# Altium schematic symbol library Comparator.SchLib: 57 symbols
Pins are listed as number, name and electrical type; pins without a type are passive.

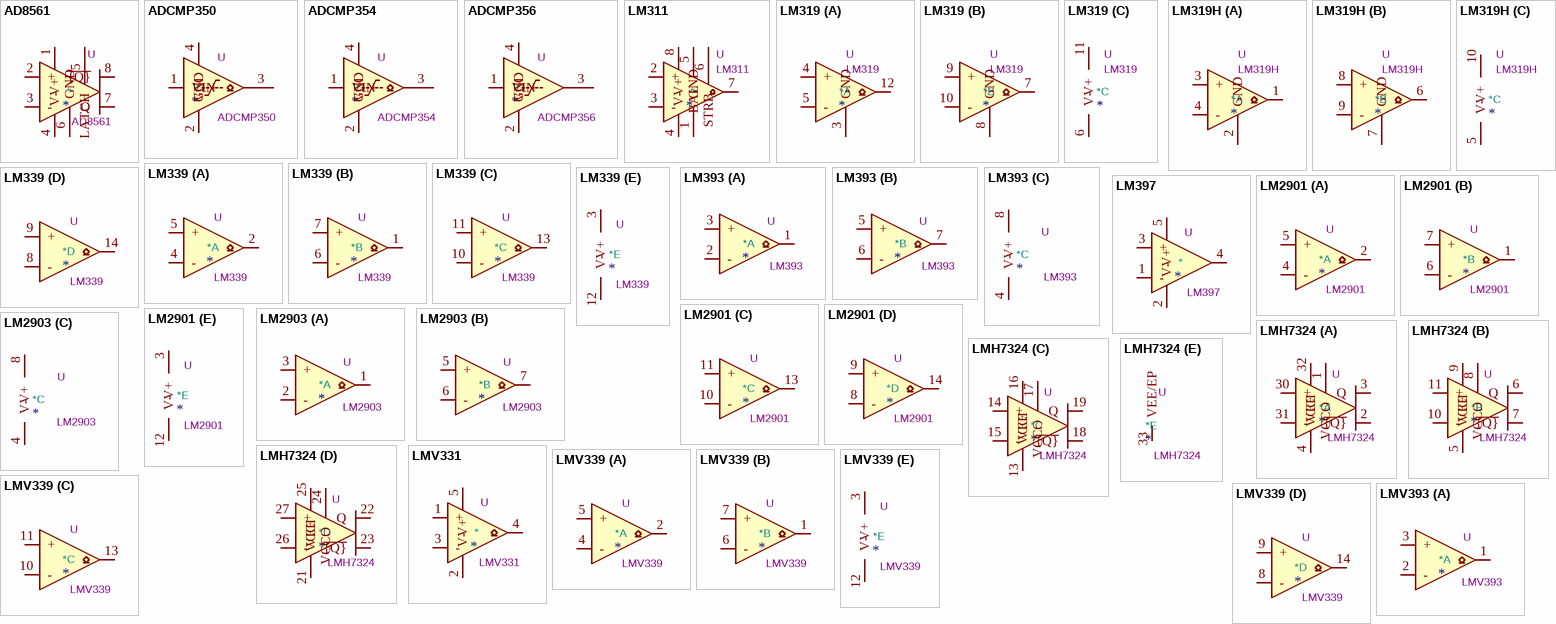
[diagram p0: symbols AD8561 to LMV393]

## AD8561
designator *  value AD8561  Reference: U
ki_keywords: cmp complementary push-pull; ki_description: Ultrafast 7 ns Single Supply Comparator, DIP-8/SOIC-8/TSSOP-8; ki_fp_filters: SOIC*3.9x4.9mm*P1.27mm* TSSOP*4.4x3mm*P0.65mm* DIP*W7.62mm*; Datasheet: https://www.analog.com/media/en/technical-documentation/data-sheets/ad8561.pdf
pins: 1 V+, 2 +, 3 -, 4 V-, 5 LATCH, 6 GND, 7 Q, 8 ~{{Q}}

## ADCMP350
designator *  value ADCMP350  Reference: U
ki_keywords: cmp collector; ki_description: Single-input comparator, internal 0.6V reference, Active-Low Open-Drain output, KS-4; ki_fp_filters: Analog*KS?4*; Footprint: Package_TO_SOT_SMD:Analog_KS-4; Datasheet: https://www.analog.com/media/en/technical-documentation/data-sheets/ADCMP350_354_356.pdf
pins: 1 VIN, 2 GND, 3, 4 VCC

## ADCMP354
designator *  value ADCMP354  Reference: U
ki_keywords: cmp collector; ki_description: Single-input comparator, internal 0.6V reference, Active-High Open-Drain output, KS-4; ki_fp_filters: Analog*KS?4*; Footprint: Package_TO_SOT_SMD:Analog_KS-4; Datasheet: https://www.analog.com/media/en/technical-documentation/data-sheets/ADCMP350_354_356.pdf
pins: 1 VIN, 2 GND, 3, 4 VCC

## ADCMP356
designator *  value ADCMP356  Reference: U
ki_keywords: cmp; ki_description: Single-input comparator, internal 0.6V reference, Active-High Push-Pull output, KS-4; ki_fp_filters: Analog*KS?4*; Footprint: Package_TO_SOT_SMD:Analog_KS-4; Datasheet: https://www.analog.com/media/en/technical-documentation/data-sheets/ADCMP350_354_356.pdf
pins: 1 VIN, 2 GND, 3, 4 VCC

## LM311
designator *  value LM311  Reference: U
ki_keywords: cmp open collector; ki_description: Voltage Comparator, DIP-8/SOIC-8; ki_fp_filters: SOIC*3.9x4.9mm*P1.27mm* DIP*W7.62mm*; Datasheet: https://www.st.com/resource/en/datasheet/lm311.pdf
pins: 1 GND, 2 +, 3 -, 4 V-, 5 BAL, 6 STRB, 7, 8 V+

## LM319
designator *  value LM319  Reference: U
ki_keywords: cmp open collector; ki_description: High Speed Dual Comparator, DIP-14/SOIC-14; ki_fp_filters: SOIC*3.9x8.7mm*P1.27mm* DIP*W7.62mm*; Datasheet: http://www.ti.com/lit/ds/symlink/lm319-n.pdf
part A pins: 1 NC hidden, 2 NC hidden, 3 GND, 4 +, 5 -, 12
part B pins: 7, 8 GND, 9 +, 10 -, 13 NC hidden, 14 NC hidden
part C pins: 6 V-, 11 V+

## LM319H
designator *  value LM319H  Reference: U
ki_keywords: cmp open collector; ki_description: High Speed Dual Comparator, TO-100-10; ki_fp_filters: TO?100*; Footprint: Package_TO_SOT_THT:TO-100-10; Datasheet: http://www.ti.com/lit/ds/symlink/lm319-n.pdf
part A pins: 1, 2 GND, 3 +, 4 -
part B pins: 6, 7 GND, 8 +, 9 -
part C pins: 5 V-, 10 V+

## LM339
designator *  value LM339  Reference: U
ki_keywords: cmp open collector; ki_description: Quad Differential Comparators, SOIC-14/TSSOP-14; ki_fp_filters: SOIC*3.9x8.7mm*P1.27mm* TSSOP*4.4x5mm*P0.65mm*; Datasheet: https://www.st.com/resource/en/datasheet/lm139.pdf
part A pins: 2, 4 -, 5 +
part B pins: 1, 6 -, 7 +
part C pins: 10 -, 11 +, 13
part D pins: 8 -, 9 +, 14
part E pins: 3 V+, 12 V-

## LM393
designator *  value LM393  Reference: U
ki_keywords: cmp open collector; ki_description: Low-Power, Low-Offset Voltage, Dual Comparators, DIP-8/SOIC-8/TO-99-8; ki_fp_filters: SOIC*3.9x4.9mm*P1.27mm* DIP*W7.62mm* SOP*5.28x5.23mm*P1.27mm* VSSOP*3.0x3.0mm*P0.65mm* TSSOP*4.4x3mm*P0.65mm*; Datasheet: http://www.ti.com/lit/ds/symlink/lm393.pdf
part A pins: 1, 2 -, 3 +
part B pins: 5 +, 6 -, 7
part C pins: 4 V-, 8 V+

## LM397
designator *  value LM397  Reference: U
ki_keywords: single comparator; ki_description: Single General-Purpose Voltage Comparator with Open-Collector Output, SOT-23-5; ki_fp_filters: SOT?23*; Footprint: Package_TO_SOT_SMD:SOT-23-5; Datasheet: http://www.ti.com/lit/ds/symlink/lm397.pdf
pins: 1 -, 2 V-, 3 +, 4, 5 V+

## LM2901
designator *  value LM2901  Reference: U
ki_keywords: cmp open collector; ki_description: Quad Differential Comparators, DIP-14/SOIC-14/TSSOP-14; ki_fp_filters: SOIC*3.9x8.7mm*P1.27mm* DIP*W7.62mm* TSSOP*4.4x5mm*P0.65mm*; Datasheet: https://www.st.com/resource/en/datasheet/lm2901.pdf
part A pins: 2, 4 -, 5 +
part B pins: 1, 6 -, 7 +
part C pins: 10 -, 11 +, 13
part D pins: 8 -, 9 +, 14
part E pins: 3 V+, 12 V-

## LM2903
designator *  value LM2903  Reference: U
ki_keywords: cmp open collector; ki_description: Low-Power, Low-Offset Voltage, Dual Comparators, DIP-8/SOIC-8/SOP-8/TSSOP-8/VSSOP-8; ki_fp_filters: SOIC*3.9x4.9mm*P1.27mm* DIP*W7.62mm* SOP*5.28x5.23mm*P1.27mm* VSSOP*3.0x3.0mm*P0.65mm* TSSOP*4.4x3mm*P0.65mm*; Datasheet: http://www.ti.com/lit/ds/symlink/lm393.pdf
part A pins: 1, 2 -, 3 +
part B pins: 5 +, 6 -, 7
part C pins: 4 V-, 8 V+

## LMH7324
designator *  value LMH7324  Reference: U
ki_keywords: cmp push-pull complementary; ki_description: Quad 700 ps High Speed Comparator with RSPECL Outputs, WQFN-32; ki_fp_filters: WQFN*1EP*5x5mm*P0.5mm*; Footprint: Package_DFN_QFN:WQFN-32-1EP_5x5mm_P0.5mm_EP3.1x3.1mm; Datasheet: http://www.ti.com/lit/ds/symlink/lmh7324.pdf
part A pins: 1 VCCO, 2 ~{{Q}}, 3 Q, 4 VEE, 29 VEE hidden, 30 +, 31 -, 32 VCCI
part B pins: 5 VEE, 6 Q, 7 ~{{Q}}, 8 VCCO, 9 VCCI, 10 -, 11 +, 12 VEE hidden
part C pins: 13 VEE, 14 +, 15 -, 16 VCCI, 17 VCCO, 18 ~{{Q}}, 19 Q, 20 VEE hidden
part D pins: 21 VEE, 22 Q, 23 ~{{Q}}, 24 VCCO, 25 VCCI, 26 -, 27 +, 28 VEE hidden
part E pins: 33 VEE/EP

## LMV331
designator *  value LMV331  Reference: U
ki_keywords: single comparator; ki_description: Single General-Purpose Low-Voltage Comparator, SOT-23-5/SC-70-5; ki_fp_filters: SOT?23* *SC?70*; Datasheet: http://www.ti.com/lit/ds/symlink/lmv331.pdf
pins: 1 +, 2 V-, 3 -, 4, 5 V+

## LMV339
designator *  value LMV339  Reference: U
ki_keywords: cmp open collector; ki_description: Quad General-Purpose Low-Voltage Comparator, SOIC-14/TSSOP-14; ki_fp_filters: SOIC*3.9x8.7mm*P1.27mm* TSSOP*4.4x5mm*P0.65mm*; Datasheet: https://www.st.com/resource/en/datasheet/lmv331.pdf
part A pins: 2, 4 -, 5 +
part B pins: 1, 6 -, 7 +
part C pins: 10 -, 11 +, 13
part D pins: 8 -, 9 +, 14
part E pins: 3 V+, 12 V-

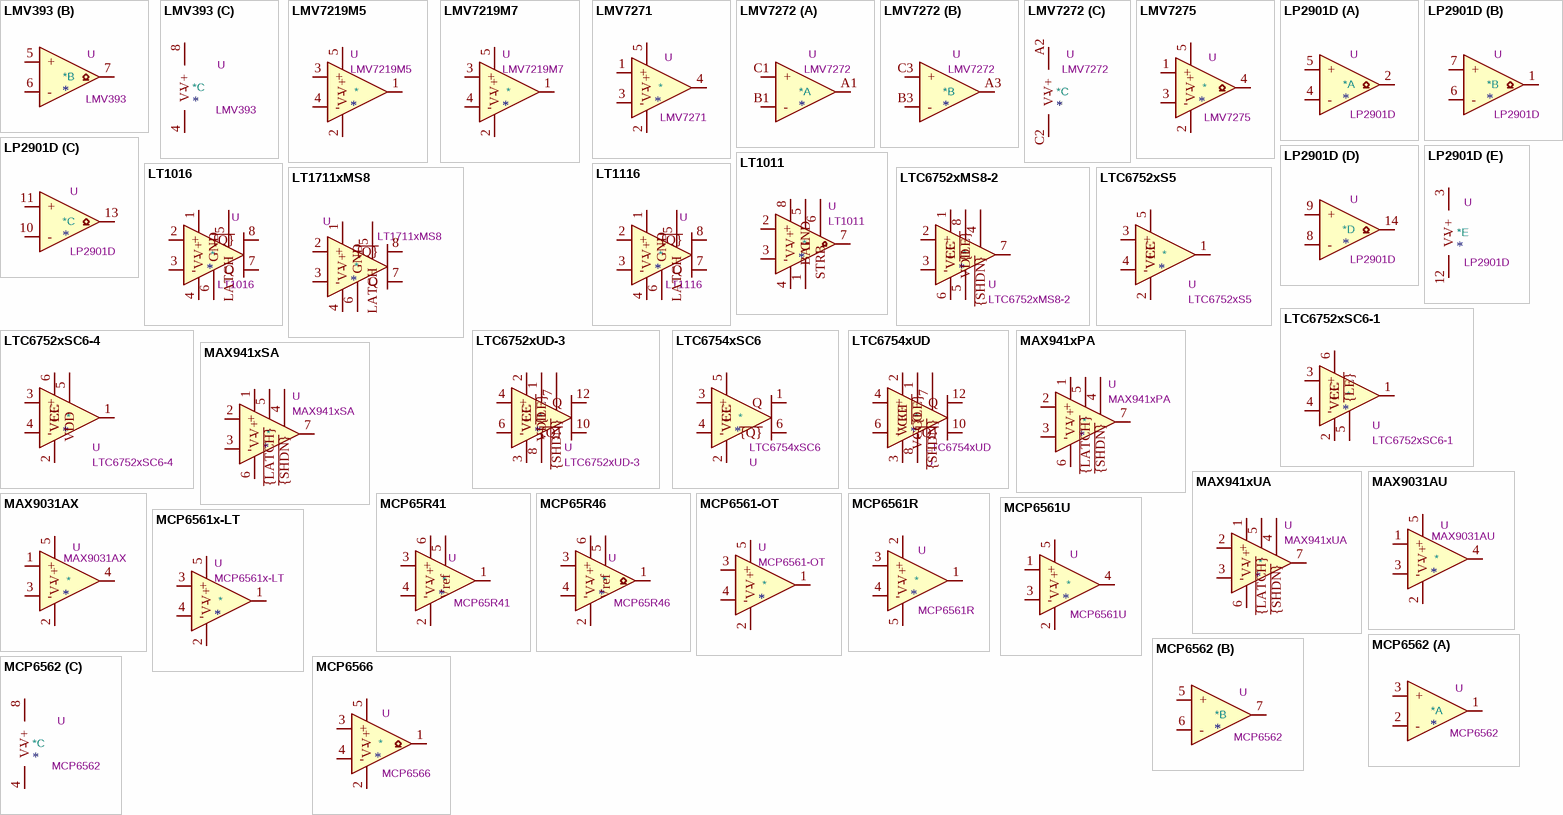
[diagram p1: symbols LMV393 to MCP6566]

## LMV393
designator *  value LMV393  Reference: U
ki_keywords: cmp open collector; ki_description: Dual General-Purpose Low-Voltage Comparator, SOIC-8/TSSOP-8/VSSOP-8; ki_fp_filters: SOIC*3.9x4.9mm*P1.27mm* TSSOP*4.4x3mm*P0.65mm* VSSOP*3.0x3.0mm*P0.65mm* VSSOP*2.3x2mm*P0.5mm*; Datasheet: http://www.ti.com/lit/ds/symlink/lmv331.pdf
part A pins: 1, 2 -, 3 +
part B pins: 5 +, 6 -, 7
part C pins: 4 V-, 8 V+

## LMV7219M5
designator *  value LMV7219M5  Reference: U
ki_keywords: cmp; ki_description: Single Low-Power High-Speed Push-Pull Output Comparator, SOT-23-5; ki_fp_filters: SOT?23*; Footprint: Package_TO_SOT_SMD:SOT-23-5; Datasheet: https://www.ti.com/lit/ds/symlink/lmv7219.pdf
pins: 1, 2 V-, 3 +, 4 -, 5 V+

## LMV7219M7
designator *  value LMV7219M7  Reference: U
ki_keywords: cmp; ki_description: Single Low-Power High-Speed Push-Pull Output Comparator, SC-70-5; ki_fp_filters: SOT?353*; Footprint: Package_TO_SOT_SMD:SOT-353_SC-70-5; Datasheet: https://www.ti.com/lit/ds/symlink/lmv7219.pdf
pins: 1, 2 V-, 3 +, 4 -, 5 V+

## LMV7271
designator *  value LMV7271  Reference: U
ki_keywords: cmp; ki_description: Single, 1.8V Low Power, Rail-to-Rail Input, Push-Pull Output Comparator, SOT-23-5/SC-70-5; ki_fp_filters: SOT?23* *SC?70*; Datasheet: http://www.ti.com/lit/ds/symlink/lmv7271.pdf
pins: 1 +, 2 V-, 3 -, 4, 5 V+

## LMV7272
designator *  value LMV7272  Reference: U
ki_keywords: cmp; ki_description: Dual, 1.8V Low Power, Rail-to-Rail Input, Push-Pull Output Comparator, DSBGA-8; ki_fp_filters: Texas*DSBGA*1.5195x1.5195*Layout3x3*P0.5mm*; Footprint: Package_BGA:Texas_DSBGA-8_1.5195x1.5195mm_Layout3x3_P0.5mm; Datasheet: http://www.ti.com/lit/ds/symlink/lmv7272.pdf
part A pins: A1, B1 -, C1 +
part B pins: A3, B3 -, C3 +
part C pins: A2 V+, C2 V-

## LMV7275
designator *  value LMV7275  Reference: U
ki_keywords: cmp; ki_description: Single, 1.8V Low Power, Rail-to-Rail Input, Open Collector Output Comparator, SOT-23-5/SC-70-5; ki_fp_filters: SOT?23* *SC?70*; Datasheet: http://www.ti.com/lit/ds/symlink/lmv7275.pdf
pins: 1 +, 2 V-, 3 -, 4, 5 V+

## LP2901D
designator *  value LP2901D  Reference: U
ki_keywords: cmp open collector; ki_description: Quad Differential Comparators, SOIC-14; ki_fp_filters: SOIC*3.9x8.7mm*P1.27mm*; Footprint: Package_SO:SOIC-14_3.9x8.7mm_P1.27mm; Datasheet: https://www.ti.com/lit/ds/symlink/lp2901.pdf
part A pins: 2, 4 -, 5 +
part B pins: 1, 6 -, 7 +
part C pins: 10 -, 11 +, 13
part D pins: 8 -, 9 +, 14
part E pins: 3 V+, 12 V-

## LT1011
designator *  value LT1011  Reference: U
ki_keywords: cmp open collector; ki_description: Voltage Comparator, DIP-8/SOIC-8; ki_fp_filters: SOIC*3.9x4.9mm*P1.27mm* DIP*W7.62mm*; Datasheet: https://www.analog.com/media/en/technical-documentation/data-sheets/lt1011.pdf
pins: 1 GND, 2 +, 3 -, 4 V-, 5 BAL, 6 STRB, 7, 8 V+

## LT1016
designator *  value LT1016  Reference: U
ki_keywords: cmp push-pull complementary latch; ki_description: Single UltraFast Precision 10ns Comparator, DIP-8/SOIC-8; ki_fp_filters: SOIC*3.9x4.9mm*P1.27mm* DIP*W7.62mm*; Datasheet: https://www.analog.com/media/en/technical-documentation/data-sheets/lt1016.pdf
pins: 1 V+, 2 +, 3 -, 4 V-, 5 LATCH, 6 GND, 7 Q, 8 ~{{Q}}

## LT1116
designator *  value LT1116  Reference: U
ki_keywords: cmp push-pull complementary latch; ki_description: Single 12ns, Single Supply Ground-Sensing Comparator, DIP-8/SOIC-8; ki_fp_filters: SOIC*3.9x4.9mm*P1.27mm* DIP*W7.62mm*; Datasheet: https://www.analog.com/media/en/technical-documentation/data-sheets/1116fc.pdf
pins: 1 V+, 2 +, 3 -, 4 V-, 5 LATCH, 6 GND, 7 Q, 8 ~{{Q}}

## LT1711xMS8
designator *  value LT1711xMS8  Reference: U
ki_keywords: cmp latch push-pull complementary; ki_description: Single ultrafast 4.5 ns rail-to-rail comparator, MSOP-8; ki_fp_filters: MSOP*3x3mm*P0.65mm*; Footprint: Package_SO:MSOP-8_3x3mm_P0.65mm; Datasheet: https://www.analog.com/media/en/technical-documentation/data-sheets/171112f.pdf
pins: 1 V+, 2 +, 3 -, 4 V-, 5 LATCH, 6 GND, 7 Q, 8 ~{{Q}}

## LTC6752xMS8-2
designator *  value LTC6752xMS8-2  Reference: U
ki_keywords: single comparator high speed cmos; ki_description: Single 280Mhz 2.9ns Comparator, Rail-to-Rail Inputs, CMOS Output, MSOP-8; ki_fp_filters: MSOP*3x3mm*P0.65mm*; Footprint: Package_SO:MSOP-8_3x3mm_P0.65mm; Datasheet: https://www.analog.com/media/en/technical-documentation/data-sheets/6752fc.pdf
pins: 1 VCC, 2 +, 3 -, 4 ~{{SHDN}}, 5 ~{{LE}}, 6 VEE, 7, 8 VDD

## LTC6752xS5
designator *  value LTC6752xS5  Reference: U
ki_keywords: single comparator high speed cmos; ki_description: Single 280Mhz 2.9ns Comparator, Rail-to-Rail Inputs, CMOS Output, TSOT-23-5; ki_fp_filters: TSOT?23?5*; Footprint: Package_TO_SOT_SMD:TSOT-23-5; Datasheet: https://www.analog.com/media/en/technical-documentation/data-sheets/6752fc.pdf
pins: 1, 2 VEE, 3 +, 4 -, 5 VCC

## LTC6752xSC6-1
designator *  value LTC6752xSC6-1  Reference: U
ki_keywords: single comparator high speed cmos; ki_description: Single 280Mhz 2.9ns Comparator, Rail-to-Rail Inputs, CMOS Output, SC-70; ki_fp_filters: SOT?363*; Footprint: Package_TO_SOT_SMD:SOT-363_SC-70-6; Datasheet: https://www.analog.com/media/en/technical-documentation/data-sheets/6752fc.pdf
pins: 1, 2 VEE, 3 +, 4 -, 5 ~{{LE}}, 6 VCC

## LTC6752xSC6-4
designator *  value LTC6752xSC6-4  Reference: U
ki_keywords: single comparator high speed cmos; ki_description: Single 280Mhz 2.9ns Comparator, Rail-to-Rail Inputs, CMOS Output, SC-70; ki_fp_filters: SOT?363*; Footprint: Package_TO_SOT_SMD:SOT-363_SC-70-6; Datasheet: https://www.analog.com/media/en/technical-documentation/data-sheets/6752fc.pdf
pins: 1, 2 VEE, 3 +, 4 -, 5 VDD, 6 VCC

## LTC6752xUD-3
designator *  value LTC6752xUD-3  Reference: U
ki_keywords: single comparator high speed cmos; ki_description: Single 280Mhz 2.9ns Comparator, Rail-to-Rail Inputs, CMOS Output, QFN-12; ki_fp_filters: QFN*1EP*3x3mm*P0.5mm*; Footprint: Package_DFN_QFN:QFN-12-1EP_3x3mm_P0.5mm_EP1.65x1.65mm; Datasheet: https://www.analog.com/media/en/technical-documentation/data-sheets/6752fc.pdf
pins: 1 VDD, 2 VCC, 3 VEE, 4 +, 5 NC hidden, 6 -, 7 ~{{SHDN}}, 8 ~{{LE}}, 9 VEE hidden, 10 ~{{Q}}, 11 NC hidden, 12 Q, 13 VEE hidden

## LTC6754xSC6
designator *  value LTC6754xSC6  Reference: U
ki_keywords: cmp r2r rtr push-pull complementary; ki_description: Single High Speed Rail-to-Rail Input Comparator with LVDS Compatible Outputs, SC-70-6; ki_fp_filters: *SC?70*; Footprint: Package_TO_SOT_SMD:SOT-363_SC-70-6; Datasheet: https://www.analog.com/media/en/technical-documentation/data-sheets/6754f.pdf
pins: 1 Q, 2 VEE, 3 +, 4 -, 5 VCC, 6 ~{{Q}}

## LTC6754xUD
designator *  value LTC6754xUD  Reference: U
ki_keywords: cmp r2r rtr push-pull complementary; ki_description: Single High Speed Rail-to-Rail Input Comparator with LVDS Compatible Outputs, QFN-12; ki_fp_filters: QFN*1EP*3x3mm*P0.5mm*; Footprint: Package_DFN_QFN:QFN-12-1EP_3x3mm_P0.5mm_EP1.65x1.65mm; Datasheet: https://www.analog.com/media/en/technical-documentation/data-sheets/6754f.pdf
pins: 1 VCCO, 2 VCCI, 3 VEE, 4 +, 5 NC hidden, 6 -, 7 ~{{SHDN}}, 8 ~{{LE}}, 9 VEE hidden, 10 ~{{Q}}, 11 NC hidden, 12 Q, 13 VEE hidden

## MAX941xPA
designator *  value MAX941xPA  Reference: U
ki_keywords: single comparator; ki_description: High-Speed, Low-Power, 3V/5V, Rail-to-Rail, Single-Supply Comparator, PDIP-8; ki_fp_filters: DIP*W7.62mm*; Footprint: Package_DIP:DIP-8_W7.62mm; Datasheet: https://datasheets.maximintegrated.com/en/ds/MAX941-MAX944.pdf
pins: 1 V+, 2 +, 3 -, 4 ~{{SHDN}}, 5 ~{{LATCH}}, 6 V-, 7, 8 NC hidden

## MAX941xSA
designator *  value MAX941xSA  Reference: U
ki_keywords: single comparator; ki_description: High-Speed, Low-Power, 3V/5V, Rail-to-Rail, Single-Supply Comparator, SOIC-8; ki_fp_filters: SOIC*3.9x4.9mm*P1.27mm*; Footprint: Package_SO:SOIC-8_3.9x4.9mm_P1.27mm; Datasheet: https://datasheets.maximintegrated.com/en/ds/MAX941-MAX944.pdf
pins: 1 V+, 2 +, 3 -, 4 ~{{SHDN}}, 5 ~{{LATCH}}, 6 V-, 7, 8 NC hidden

## MAX941xUA
designator *  value MAX941xUA  Reference: U
ki_keywords: single comparator; ki_description: High-Speed, Low-Power, 3V/5V, Rail-to-Rail, Single-Supply Comparator, MSOP-8; ki_fp_filters: MSOP*3x3mm*P0.65mm*; Footprint: Package_SO:MSOP-8_3x3mm_P0.65mm; Datasheet: https://datasheets.maximintegrated.com/en/ds/MAX941-MAX944.pdf
pins: 1 V+, 2 +, 3 -, 4 ~{{SHDN}}, 5 ~{{LATCH}}, 6 V-, 7, 8 NC hidden

## MAX9031AU
designator *  value MAX9031AU  Reference: U
ki_keywords: rail-rail; ki_description: Single, Rail to Rail, 2.5V - 5.5V Supply, 571mW, SOT-23-5; ki_fp_filters: *SOT?23*; Footprint: Package_TO_SOT_SMD:SOT-23-5; Datasheet: https://datasheets.maximintegrated.com/en/ds/MAX9030-MAX9034.pdf
pins: 1 +, 2 V-, 3 -, 4, 5 V+

## MAX9031AX
designator *  value MAX9031AX  Reference: U
ki_keywords: rail-rail; ki_description: Single, Rail to Rail, 2.5V - 5.5V Supply, 247mW, SC70; ki_fp_filters: *SC?70*; Footprint: Package_TO_SOT_SMD:SOT-353_SC-70-5; Datasheet: https://datasheets.maximintegrated.com/en/ds/MAX9030-MAX9034.pdf
pins: 1 +, 2 V-, 3 -, 4, 5 V+

## MCP65R41
designator *  value MCP65R41  Reference: U
ki_keywords: cmp reference; ki_description: 3 μA Comparator with Integrated Reference Voltage, SOT-23-6; ki_fp_filters: SOT?23*; Footprint: Package_TO_SOT_SMD:SOT-23-6; Datasheet: http://ww1.microchip.com/downloads/en/DeviceDoc/22269B.pdf
pins: 1, 2 V-, 3 +, 4 -, 5 Vref, 6 V+

## MCP65R46
designator *  value MCP65R46  Reference: U
ki_keywords: cmp reference open collector drain; ki_description: 3 μA Comparator with Integrated Reference Voltage, SOT-23-6; ki_fp_filters: SOT?23*; Footprint: Package_TO_SOT_SMD:SOT-23-6; Datasheet: http://ww1.microchip.com/downloads/en/DeviceDoc/22269B.pdf
pins: 1, 2 V-, 3 +, 4 -, 5 Vref, 6 V+

## MCP6561-OT
designator *  value MCP6561-OT  Reference: U
ki_keywords: cmp; ki_description: Single 1.8V Low-Power Push-Pull Output Comparator, SOT-23-5; ki_fp_filters: SOT?23*; Footprint: Package_TO_SOT_SMD:SOT-23-5; Datasheet: http://ww1.microchip.com/downloads/en/DeviceDoc/MCP6561-1R-1U-2-4-1.8V-Low-Power-Push-Pull-Output-Comparator-DS20002139E.pdf
pins: 1, 2 V-, 3 +, 4 -, 5 V+

## MCP6561R
designator *  value MCP6561R  Reference: U
ki_keywords: cmp; ki_description: Single 1.8V Low-Power Push-Pull Output Comparator, SOT-23-5; ki_fp_filters: SOT?23*; Footprint: Package_TO_SOT_SMD:SOT-23-5; Datasheet: http://ww1.microchip.com/downloads/en/DeviceDoc/MCP6561-1R-1U-2-4-1.8V-Low-Power-Push-Pull-Output-Comparator-DS20002139E.pdf
pins: 1, 2 V+, 3 +, 4 -, 5 V-

## MCP6561U
designator *  value MCP6561U  Reference: U
ki_keywords: cmp; ki_description: Single 1.8V Low-Power Push-Pull Output Comparator, SOT-23-5; ki_fp_filters: SOT?23*; Footprint: Package_TO_SOT_SMD:SOT-23-5; Datasheet: http://ww1.microchip.com/downloads/en/DeviceDoc/MCP6561-1R-1U-2-4-1.8V-Low-Power-Push-Pull-Output-Comparator-DS20002139E.pdf
pins: 1 +, 2 V-, 3 -, 4, 5 V+

## MCP6561x-LT
designator *  value MCP6561x-LT  Reference: U
ki_keywords: cmp; ki_description: Single 1.8V Low-Power Push-Pull Output Comparator, SC-70-5; ki_fp_filters: SOT?353*; Footprint: Package_TO_SOT_SMD:SOT-353_SC-70-5; Datasheet: http://ww1.microchip.com/downloads/en/DeviceDoc/MCP6561-1R-1U-2-4-1.8V-Low-Power-Push-Pull-Output-Comparator-DS20002139E.pdf
pins: 1, 2 V-, 3 +, 4 -, 5 V+

## MCP6562
designator *  value MCP6562  Reference: U
ki_keywords: cmp; ki_description: Dual 1.8V Low-Power Push-Pull Output Comparator, SOIC-8/MSOP-8; ki_fp_filters: SOIC*3.9x4.9mm*P1.27mm* MSOP*3x3mm*P0.65mm*; Datasheet: http://ww1.microchip.com/downloads/en/DeviceDoc/MCP6561-1R-1U-2-4-1.8V-Low-Power-Push-Pull-Output-Comparator-DS20002139E.pdf
part A pins: 1, 2 -, 3 +
part B pins: 5 +, 6 -, 7
part C pins: 4 V-, 8 V+

## MCP6566
designator *  value MCP6566  Reference: U
ki_keywords: cmp collector; ki_description: Single 1.8V Low-Power Open-Drain Output Comparator, SOT-23-5/SC-70; ki_fp_filters: SOT?23* *SC*70*; Datasheet: http://ww1.microchip.com/downloads/en/DeviceDoc/MCP6566-6R-6U-7-9-1.8V-Low-Power-Open-Drain-Output-Comparator-DS20002143G.pdf
pins: 1, 2 V-, 3 +, 4 -, 5 V+

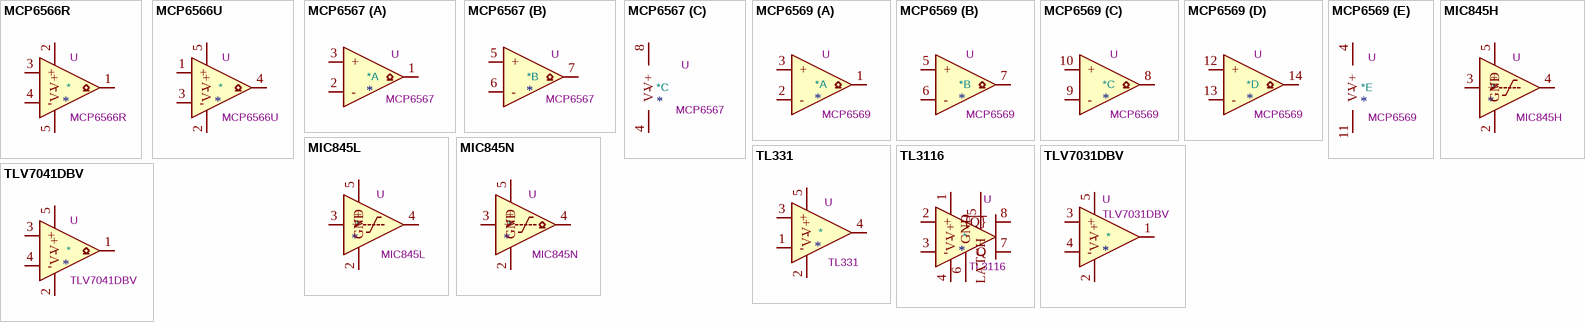
[diagram p2: symbols MCP6566R to TLV7041DBV]

## MCP6566R
designator *  value MCP6566R  Reference: U
ki_keywords: cmp collector; ki_description: Single 1.8V Low-Power Open-Drain Output Comparator, SOT-23-5; ki_fp_filters: SOT?23*; Footprint: Package_TO_SOT_SMD:SOT-23-5; Datasheet: http://ww1.microchip.com/downloads/en/DeviceDoc/MCP6566-6R-6U-7-9-1.8V-Low-Power-Open-Drain-Output-Comparator-DS20002143G.pdf
pins: 1, 2 V+, 3 +, 4 -, 5 V-

## MCP6566U
designator *  value MCP6566U  Reference: U
ki_keywords: cmp collector; ki_description: Single 1.8V Low-Power Open-Drain Output Comparator, SOT-23-5; ki_fp_filters: SOT?23*; Footprint: Package_TO_SOT_SMD:SOT-23-5; Datasheet: http://ww1.microchip.com/downloads/en/DeviceDoc/MCP6566-6R-6U-7-9-1.8V-Low-Power-Open-Drain-Output-Comparator-DS20002143G.pdf
pins: 1 +, 2 V-, 3 -, 4, 5 V+

## MCP6567
designator *  value MCP6567  Reference: U
ki_keywords: cmp collector; ki_description: Dual 1.8V Low-Power Open-Drain Output Comparator, SOIC-8/MSOP-8; ki_fp_filters: SOIC*3.9x4.9mm*P1.27mm* MSOP*3x3mm*P0.65mm*; Datasheet: http://ww1.microchip.com/downloads/en/DeviceDoc/MCP6566-6R-6U-7-9-1.8V-Low-Power-Open-Drain-Output-Comparator-DS20002143G.pdf
part A pins: 1, 2 -, 3 +
part B pins: 5 +, 6 -, 7
part C pins: 4 V-, 8 V+

## MCP6569
designator *  value MCP6569  Reference: U
ki_keywords: cmp collector; ki_description: Quad 1.8V Low-Power Open-Drain Output Comparator, SOIC-14/TSSOP-14; ki_fp_filters: SOIC*3.9x8.7mm*P1.27mm* TSSOP*4.4x5mm*P0.65mm*; Datasheet: http://ww1.microchip.com/downloads/en/DeviceDoc/MCP6566-6R-6U-7-9-1.8V-Low-Power-Open-Drain-Output-Comparator-DS20002143G.pdf
part A pins: 1, 2 -, 3 +
part B pins: 5 +, 6 -, 7
part C pins: 8, 9 -, 10 +
part D pins: 12 +, 13 -, 14
part E pins: 4 V+, 11 V-

## MIC845H
designator *  value MIC845H  Reference: U
ki_keywords: single cmp; ki_description: Micro-Power Comparator / Battery Monitor, Active-High Push-Pull Output, SC-70-5; ki_fp_filters: *SC?70*; Footprint: Package_TO_SOT_SMD:SOT-353_SC-70-5; Datasheet: http://ww1.microchip.com/downloads/en/DeviceDoc/mic845.pdf
pins: 1 NIC hidden, 2 GND, 3 +, 4, 5 V+

## MIC845L
designator *  value MIC845L  Reference: U
ki_keywords: single cmp; ki_description: Micro-Power Comparator / Battery Monitor, Active-Low Push-Pull Output, SC-70-5; ki_fp_filters: *SC?70*; Footprint: Package_TO_SOT_SMD:SOT-353_SC-70-5; Datasheet: http://ww1.microchip.com/downloads/en/DeviceDoc/mic845.pdf
pins: 1 NIC hidden, 2 GND, 3 +, 4, 5 V+

## MIC845N
designator *  value MIC845N  Reference: U
ki_keywords: single cmp collector; ki_description: Micro-Power Comparator / Battery Monitor, Active-High Open-Drain Output, SC-70-5; ki_fp_filters: *SC?70*; Footprint: Package_TO_SOT_SMD:SOT-353_SC-70-5; Datasheet: http://ww1.microchip.com/downloads/en/DeviceDoc/mic845.pdf
pins: 1 NIC hidden, 2 GND, 3 +, 4, 5 V+

## TL331
designator *  value TL331  Reference: U
ki_keywords: single comparator; ki_description: Single Differential Comparator with Open-Collector Output, SOT-23-5; ki_fp_filters: SOT?23*; Footprint: Package_TO_SOT_SMD:SOT-23-5; Datasheet: http://www.ti.com/lit/ds/symlink/tl331.pdf
pins: 1 -, 2 V-, 3 +, 4, 5 V+

## TL3116
designator *  value TL3116  Reference: U
ki_keywords: cmp push-pull complementary; ki_description: Single Ultra-Fast Low-Power Precision Comparators, SOIC-8/TSSOP-8; ki_fp_filters: SOIC*3.9x4.9mm*P1.27mm* TSSOP*4.4x3mm*P0.65mm*; Datasheet: http://www.ti.com/lit/ds/symlink/tl3116.pdf
pins: 1 V+, 2 +, 3 -, 4 V-, 5 LATCH, 6 GND, 7 Q, 8 ~{{Q}}

## TLV7031DBV
designator *  value TLV7031DBV  Reference: U
ki_keywords: cmp; ki_description: Single, 1.6V-6.5V, 315nA Quiescent, Push-Pull Output, Comparator, SOT-23-5/SC-70; ki_fp_filters: SOT?23*; Footprint: Package_TO_SOT_SMD:SOT-23-5; Datasheet: https://www.ti.com/lit/ds/symlink/tlv7031.pdf
pins: 1, 2 V-, 3 +, 4 -, 5 V+

## TLV7041DBV
designator *  value TLV7041DBV  Reference: U
ki_keywords: cmp collector; ki_description: Single, 1.6V-6.5V, 315nA Quiescent, Open-Drain Output, Comparator, SOT-23-5/SC-70; ki_fp_filters: SOT?23* *SC*70*; Datasheet: https://www.ti.com/lit/ds/symlink/tlv7041.pdf
pins: 1, 2 V-, 3 +, 4 -, 5 V+